# EAGLE library part BOURNS-CHIP-RESISTOR-ARRAY-4 (library zenpirate)
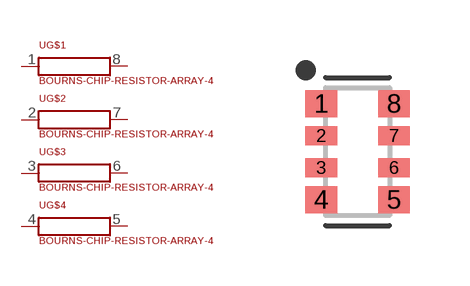
[diagram p7: symbol with the pads of RESCAXS80P320X160X50-8; footprint RESCAXS80P320X160X50-8]

Designator prefix -; gates G$1=RESISTOR G$2=RESISTOR G$3=RESISTOR G$4=RESISTOR

## BOURNS-CHIP-RESISTOR-ARRAY-40804-RESISTOR-ARRAY  [RESCAXS80P320X160X50-8]
1  G$1:P$1
2  G$2:P$1
3  G$3:P$1
4  G$4:P$1
5  G$4:P$2
6  G$3:P$2
7  G$2:P$2
8  G$1:P$2

## Footprint RESCAXS80P320X160X50-8 (pad centres in mm)
8-CHIPARRAY 2-SIDE CONVEX, 0.8 mm pitch, 3.2 X 1.6 X 0.5 mm body 8-pin CHIPARRAY 2-SIDE CONVEX package with 0.8 mm pitch with body size 3.2 X 1.6 X 0.5 mm
smd 0.792 x 0.672: 1 -0.91,1.2; 4 -0.91,-1.2; 5 0.91,-1.2; 8 0.91,1.2
smd 0.792 x 0.472: 2 -0.91,0.4; 3 -0.91,-0.4; 6 0.91,-0.4; 7 0.91,0.4